# Altium schematic symbol library LTC3115EDHD-1.SchLib: 1 symbol
Pins are listed as number, name and electrical type; pins without a type are passive.

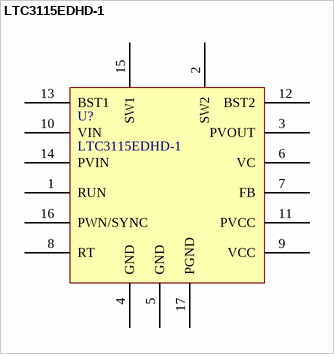
[diagram p0: symbol LTC3115EDHD-1]

## LTC3115EDHD-1
designator U?
pins: 1 RUN, 2 SW2, 3 PVOUT, 4 GND, 5 GND, 6 VC, 7 FB, 8 RT, 9 VCC, 10 VIN, 11 PVCC, 12 BST2, 13 BST1, 14 PVIN, 15 SW1, 16 PWN/SYNC, 17 PGND